# EAGLE library part AMPHENOL_USB_C_VERTICAL_RECEPTACLE_NOFEET (library amphenol_usb)
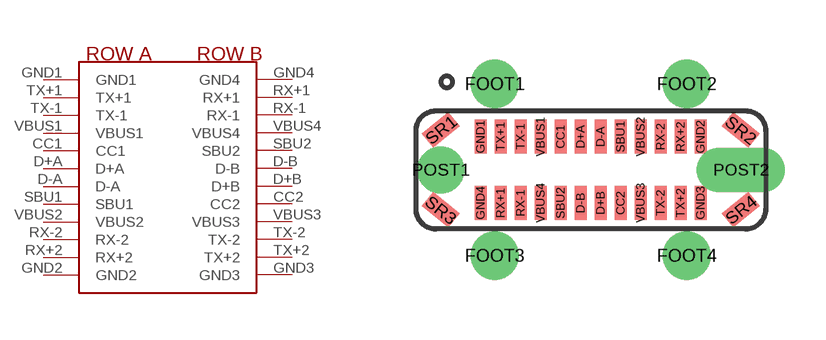
[diagram p1: symbol with the pads of AMPHENOL_USB_V_VERTICAL_RECEPTACLE_NOFEET; footprint AMPHENOL_USB_V_VERTICAL_RECEPTACLE_NOFEET]

Designator prefix -

## AMPHENOL_USB_C_VERTICAL_RECEPTACLE_NOFEET  [AMPHENOL_USB_V_VERTICAL_RECEPTACLE_NOFEET]
CC1  CC1
CC2  CC2
D+A  D+A
D+B  D+B
D-A  D-A
D-B  D-B
GND1  GND1
GND2  GND2
GND3  GND3
GND4  GND4
RX+1  RX+1
RX+2  RX+2
RX-1  RX-1
RX-2  RX-2
SBU1  SBU1
SBU2  SBU2
TX+1  TX+1
TX+2  TX+2
TX-1  TX-1
TX-2  TX-2
VBUS1  VBUS1
VBUS2  VBUS2
VBUS3  VBUS3
VBUS4  VBUS4

## Footprint AMPHENOL_USB_V_VERTICAL_RECEPTACLE_NOFEET (pad centres in mm)
smd 0.3 x 0.85: CC1 -0.75,0.83; CC2 0.75,-0.83; D+A -0.25,0.83; D+B 0.25,-0.83; D-A 0.25,0.83; D-B -0.25,-0.83; GND1 -2.75,0.83; GND2 2.75,0.83; GND3 2.75,-0.83; GND4 -2.75,-0.83; RX+1 -2.25,-0.83; RX+2 2.25,0.83; RX-1 -1.75,-0.83; RX-2 1.75,0.83; SBU1 0.75,0.83; SBU2 -0.75,-0.83; TX+1 -2.25,0.83; TX+2 2.25,-0.83; TX-1 -1.75,0.83; TX-2 1.75,-0.83; VBUS1 -1.25,0.83; VBUS2 1.25,0.83; VBUS3 1.25,-0.83; VBUS4 -1.25,-0.83
drill 0.7 pad 1.1: FOOT1 -2.4,2.15; FOOT2 2.4,2.15; FOOT3 -2.4,-2.15; FOOT4 2.4,-2.15
drill 0.66 pad 0.85: POST1 -3.75,0
drill 0.6 pad 0.8 long: POST2 3.75,0
smd 0.85 x 0.45 rotated 39: SR1 -3.75,1; SR4 3.75,-1
smd 0.85 x 0.45 rotated 321: SR2 3.75,1; SR3 -3.75,-1